# Altium schematic symbol library Header 1x3.SchLib: 1 symbol
Pins are listed as number, name and electrical type; pins without a type are passive.

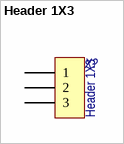
[diagram p0: symbol Header 1X3]

## Header 1X3
designator X?, comment Наименование: Header 1X3  (hidden comment: Header 1X6)
Header, 3-Pin, Single row; Потребление, Вт: 0,0; Назначение: Header, 3-Pin, Single row
footprint PLS-3 (2.54mm PIN HEADER R/A)
pins: 1, 2, 3